# Altium footprint library Arduino.PcbLib: 23 footprints (part 1 of 2)
Each footprint in its own frame and in the unit in brackets; x right, y up, seen from the top. Pads: shape width x height; smd on the part's side, far side on the other; paste and mask are expansions set on the pad; w line width, h text height; cw(c..) or ccw(c..) is an arc to the next point about the centre after c.
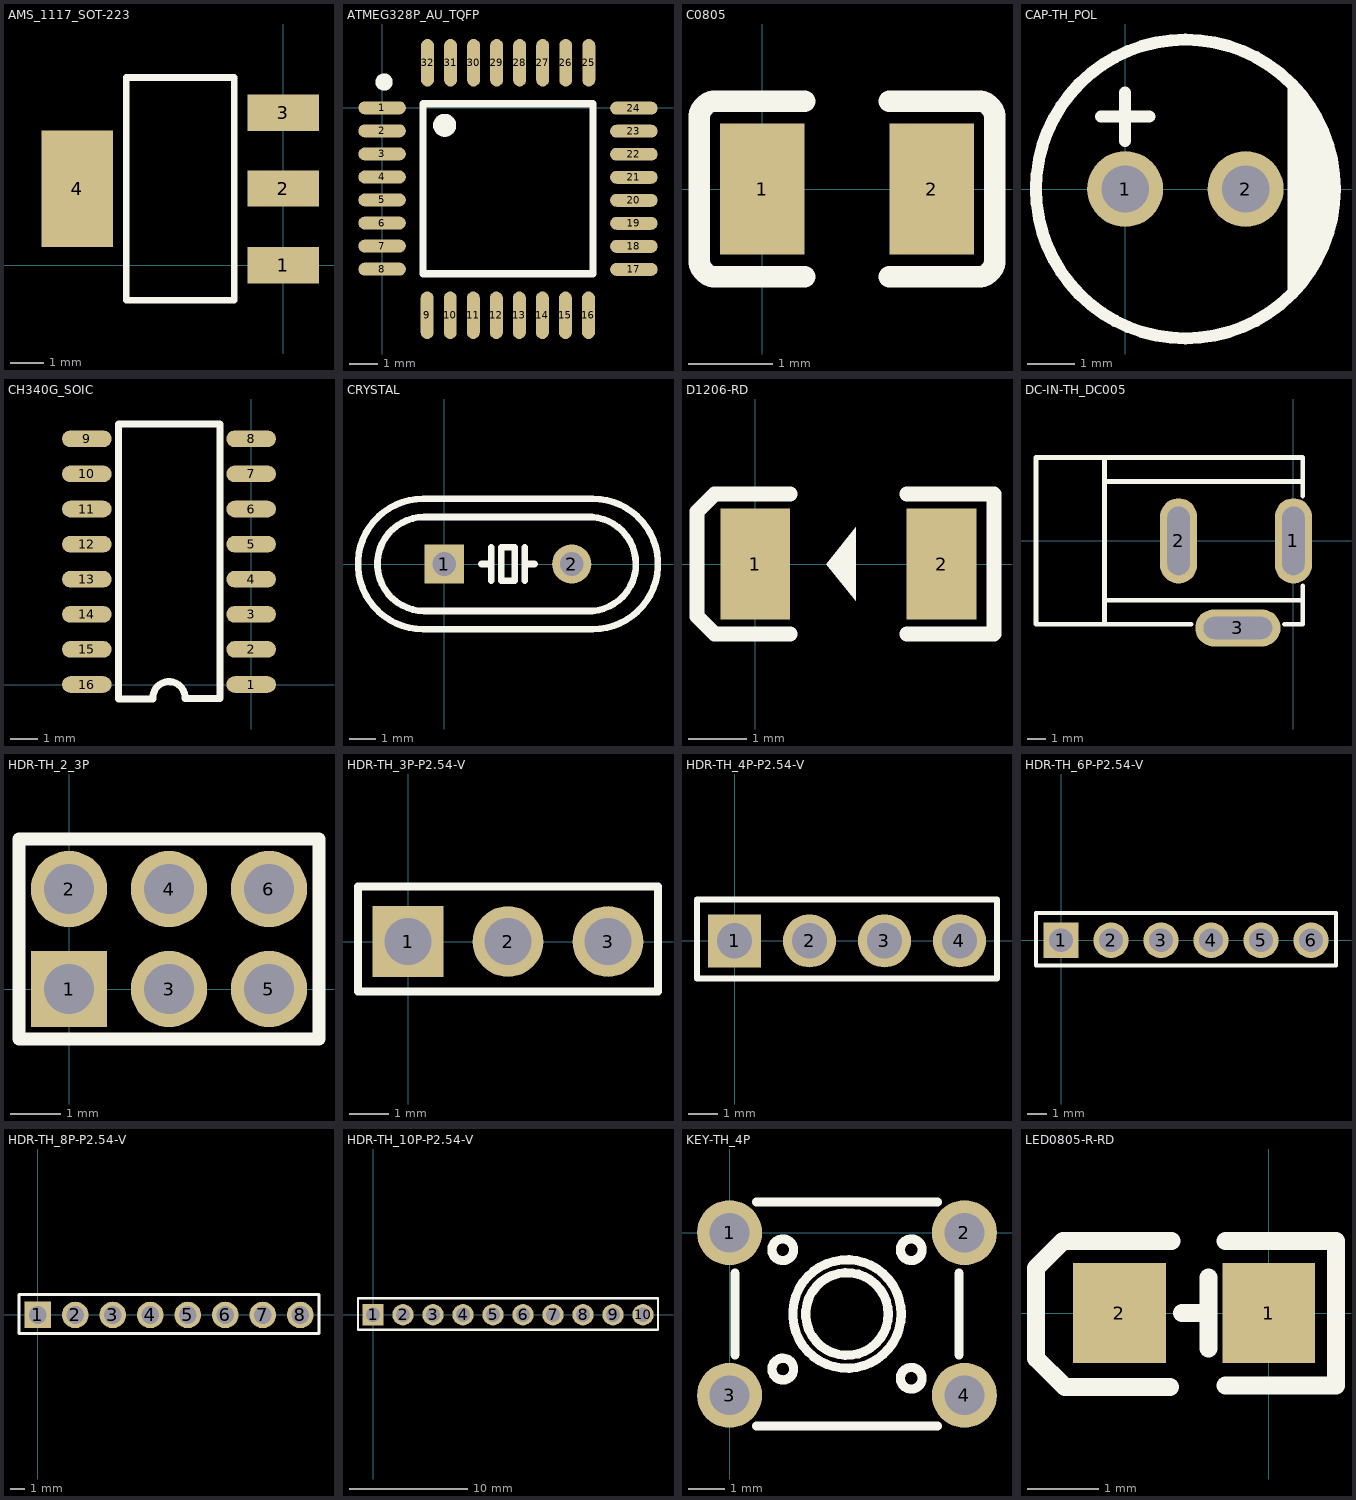
[diagram p0: the footprints below, top view; thin cyan lines are the x and y axes]

## AMS_1117_SOT-223 [mil]
pads (4):
  rect 85x43 smd: 1(0,0) 2(0,91) 3(0,181)
  rect 85x138 smd: 4(-244,91)
Top Overlay:
  lines w7.9: -185.8,-41.2 -185.8,222.6 -57.9,222.6 -57.9,-41.2 -185.8,-41.2

## ATMEG328P_AU_TQFP [mm] "PIN32_TQFP"
pads (32):
  oval 1.65x0.45 smd: 1(0,0) 2(0,-0.8) 3(0,-1.6) 4(0,-2.4) 5(0,-3.198) 6(0,-3.998) 7(0,-4.798) 8(0,-5.598) 17(8.738,-5.608) 18(8.738,-4.808) 19(8.738,-4.008) 20(8.738,-3.208) 21(8.738,-2.41) 22(8.738,-1.61) 23(8.738,-0.81) 24(8.738,-0.01)
  oval 0.45x1.65 smd: 9(1.565,-7.198) 10(2.365,-7.198) 11(3.165,-7.198) 12(3.965,-7.198) 13(4.763,-7.198) 14(5.563,-7.198) 15(6.363,-7.198) 16(7.163,-7.198) 25(7.173,1.565) 26(6.373,1.565) 27(5.573,1.565) 28(4.773,1.565) 29(3.975,1.565) 30(3.175,1.565) 31(2.375,1.565) 32(1.575,1.565)
Top Overlay:
  lines w0.254: 1.419,-5.754 1.419,0.146 7.319,0.146 7.319,-5.754 1.419,-5.754
  lines w0.3: 0.218,0.894 cw(c0.068,0.895) 0.218,0.897
  lines w0.4: 2.37,-0.607 cw(c2.17,-0.606) 2.37,-0.605

## C0805 [mm]
pads (2):
  rect 1x1.55 smd: 1(0,0) 2(2,0)
Top Overlay:
  lines w0.254: -0.75,0.82 -0.75,0.8 ; 0.5,-1.04 -0.55,-1.04 cw(c-0.55,-0.84) -0.75,-0.84 -0.75,-0.8 -0.75,0.8 ; 0.5,1.04 -0.55,1.04 ccw(c-0.55,0.84) -0.75,0.84 -0.75,0.8 ; 1.5,-1.04 2.55,-1.04 ccw(c2.55,-0.84) 2.75,-0.84 2.75,-0.8 2.75,0.8 2.75,0.84 ccw(c2.55,0.84) 2.55,1.04 1.5,1.04

## CAP-TH_POL [mm]
pads (2):
  round 1.6 hole 1: 1(0,0) 2(2.54,0)
Top Overlay:
  circle w0.254: c1.27,0 r3.15
  region: 3.429,2.286 3.589,2.142 3.865,1.812 4.092,1.447 4.267,1.054 4.385,0.641 4.445,0.215 4.445,-0.215 4.385,-0.641 4.267,-1.054 4.092,-1.447 3.865,-1.812 3.589,-2.142 3.429,-2.286
  lines w0.254: -0.508,1.524 0.508,1.524 ; 0,1.016 0,2.032

## CH340G_SOIC [mm]
pads (16):
  oval 1.798x0.6 smd: 1(0,0) 2(0,1.27) 3(0,2.54) 4(0,3.81) 5(0,5.08) 6(0,6.35) 7(0,7.62) 8(0,8.89) 9(-5.944,8.89) 10(-5.944,7.62) 11(-5.944,6.35) 12(-5.944,5.08) 13(-5.944,3.81) 14(-5.944,2.54) 15(-5.944,1.27) 16(-5.944,0)
Top Overlay:
  lines w0.254: -3.556,-0.531 -4.801,-0.531 -4.801,9.421 -1.118,9.421 -1.118,-0.483 ; -3.556,-0.505 cw(c-2.972,-0.483) -2.388,-0.508 -1.118,-0.508

## CRYSTAL [mm]
pads (2):
  rect 1.5x1.5 hole 0.9: 1(0,0)
  round 1.5 hole 0.9: 2(4.877,0)
Top Overlay:
  lines w0.254: -0.813,2.499 ccw(c-0.804,0) -0.812,-2.5 5.688,-2.5 ; -0.812,2.5 5.688,2.5 cw(c5.681,0) 5.69,-2.499 ; -0.762,1.8 5.638,1.8 cw(c5.532,0) 5.438,-1.801 ; -0.762,1.801 ccw(c-0.762,0) -0.762,-1.8 5.438,-1.8 ; 1.422,0 1.803,0 ; 1.803,-0.635 1.803,0 ; 1.803,0.635 1.803,0 ; 3.073,-0.635 3.073,0 ; 3.073,0.635 3.073,0 ; 3.454,0 3.073,0 ; 2.184,-0.635 2.692,-0.635 2.692,0.635 2.184,0.635 2.184,-0.635

## D1206-RD [mm]
pads (2):
  rect 1.2x1.9 smd: 1(0,0) 2(3.2,0)
Top Overlay:
  region: 1.727,0 1.727,0.635 1.219,0 1.727,-0.635
  lines w0.254: 0.6,-1.2 -0.6,-1.2 -0.7,-1.2 -1,-0.9 -1,0.9 -0.7,1.2 -0.6,1.2 0.6,1.2 ; 2.6,-1.2 4.1,-1.2 4.1,1.2 2.6,1.2

## DC-IN-TH_DC005 [mm]
pads (3):
  oval 2x4.6 hole 1.2 slot 3.7 at 90 deg: 1(0,0) 2(-6.2,0)
  oval 4.6x2 hole 1.2 slot 3.7 at 0 deg: 3(-3,-4.7)
Top Overlay:
  lines w0.254: -10.199,-4.5 -10.199,4.5 ; -10.119,-3.2 0.501,-3.2 ; -10.119,3.2 0.501,3.2 ; -5.514,-4.5 -13.9,-4.5 -13.9,4.5 0.501,4.5 0.501,2.425 ; -0.485,-4.5 0.501,-4.5 0.501,-2.425

## HDR-TH_2_3P [mm]
pads (6):
  rect 1.524x1.524 hole 1: 1(0,0)
  round 1.524 hole 1: 2(0,2) 3(2,0) 4(2,2) 5(4,0) 6(4,2)
Top Overlay:
  lines w0.254: -1,-1 -1,3 5,3 5,-1 -1,-1

## HDR-TH_3P-P2.54-V [mm]
pads (3):
  rect 1.8x1.8 hole 1.2: 1(0,0)
  round 1.8 hole 1.2: 2(2.54,0) 3(5.08,0)
Top Overlay:
  lines w0.203: -1.27,-1.27 6.35,-1.27 6.35,1.397 -1.27,1.397 -1.27,-1.27

## HDR-TH_4P-P2.54-V [mm]
pads (4):
  rect 1.8x1.8 hole 1.2: 1(0,0)
  round 1.8 hole 1.2: 2(2.54,0) 3(5.08,0) 4(7.62,0)
Top Overlay:
  lines w0.203: -1.27,-1.27 8.89,-1.27 8.89,1.397 -1.27,1.397 -1.27,-1.27

## HDR-TH_6P-P2.54-V [mm]
pads (6):
  rect 1.8x1.8 hole 1.2: 1(0,0)
  round 1.8 hole 1.2: 2(2.54,0) 3(5.08,0) 4(7.62,0) 5(10.16,0) 6(12.7,0)
Top Overlay:
  lines w0.203: -1.27,-1.27 13.97,-1.27 13.97,1.397 -1.27,1.397 -1.27,-1.27

## HDR-TH_8P-P2.54-V [mm]
pads (8):
  rect 1.8x1.8 hole 1.2: 1(0,0)
  round 1.8 hole 1.2: 2(2.54,0) 3(5.08,0) 4(7.62,0) 5(10.16,0) 6(12.7,0) 7(15.24,0) 8(17.78,0)
Top Overlay:
  lines w0.203: -1.27,-1.27 -1.27,1.397 19.05,1.397 19.05,-1.27 -1.27,-1.27

## HDR-TH_10P-P2.54-V [mm]
pads (10):
  rect 1.8x1.8 hole 1.2: 1(0,0)
  round 1.8 hole 1.2: 2(2.54,0) 3(5.08,0) 4(7.62,0) 5(10.16,0) 6(12.7,0) 7(15.24,0) 8(17.78,0) 9(20.32,0) 10(22.86,0)
Top Overlay:
  lines w0.203: -1.27,-1.27 -1.27,1.397 24.13,1.397 24.13,-1.27 -1.27,-1.27

## KEY-TH_4P [mm]
pads (4):
  round 1.8 hole 1.1: 1(0,0) 2(6.502,0) 3(0,-4.501) 4(6.502,-4.501)
Top Overlay:
  circle w0.254: c1.473,-3.774 r0.3
  circle w0.254: c1.473,-0.472 r0.3
  circle w0.254: c5.029,-4.028 r0.3
  circle w0.254: c5.029,-0.472 r0.3
  circle w0.254: c3.251,-2.25 r1.501
  circle w0.254: c3.251,-2.25 r1.143
  lines w0.254: 0.151,-3.38 0.151,-1.121 ; 0.745,-5.351 5.757,-5.351 ; 0.745,0.85 5.757,0.85 ; 6.351,-3.38 6.351,-1.121

## LED0805-R-RD [mm]
pads (2):
  rect 1.3x1.4 smd: 1(0,0) 2(-2.101,0)
Top Overlay:
  lines w0.254: -1.394,-1.043 -2.868,-1.043 -3.274,-0.636 -3.274,0.634 -2.893,1.015 -1.369,1.015 ; -1.219,0 -0.95,0 ; -0.85,-0.5 -0.85,0.5 ; -0.607,-1.017 0.942,-1.017 0.942,1.015 -0.607,1.015